# Altium schematic symbol library ThroughHole_Generic.SchLib: 8 symbols
Pins are listed as number, name and electrical type; pins without a type are passive.

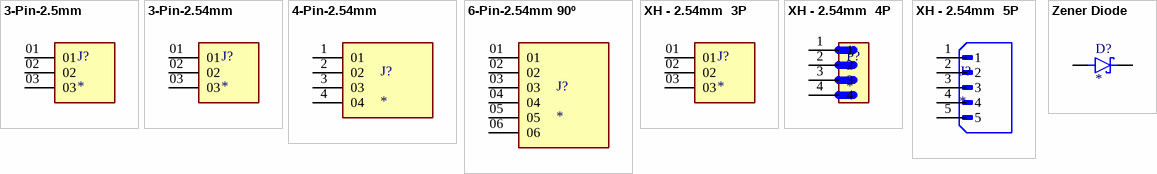
[diagram p0: symbols 3-Pin-2.5mm to Zener Diode]

## 3-Pin-2.5mm
designator J?
MP: HTSW-103-08-S-S; MF: Samtec; SnapEDA_Link: https://www.snapeda.com/parts/HTSW-103-08-S-S/Samtec/view-part/?ref=snap; Purchase-URL: https://pricing.snapeda.com/search/part/HTSW-103-08-S-S/?ref=eda; Value: *; Availability: In Stock; Check_prices: https://www.snapeda.com/parts/HTSW-103-08-S-S/Samtec/view-part/?ref=eda; Package: None; Price: None
footprint 3-Pin-2.5mm
pins: 01, 02, 03

## 3-Pin-2.54mm
designator J?
MP: HTSW-103-08-S-S; MF: Samtec; SnapEDA_Link: https://www.snapeda.com/parts/HTSW-103-08-S-S/Samtec/view-part/?ref=snap; Purchase-URL: https://pricing.snapeda.com/search/part/HTSW-103-08-S-S/?ref=eda; Value: *; Availability: In Stock; Check_prices: https://www.snapeda.com/parts/HTSW-103-08-S-S/Samtec/view-part/?ref=eda; Package: None; Price: None
footprint 3-Pin-2.54mm
pins: 01, 02, 03

## 4-Pin-2.54mm
designator J?
MF: Samtec; MP: TSW-104-25-S-S-RA; Package: None; Value: *; Check_prices: https://www.snapeda.com/parts/TSW-104-25-S-S-RA/Samtec/view-part/?ref=eda; SnapEDA_Link: https://www.snapeda.com/parts/TSW-104-25-S-S-RA/Samtec/view-part/?ref=snap; Availability: In Stock; Purchase-URL: https://pricing.snapeda.com/search/part/TSW-104-25-S-S-RA/?ref=eda; Price: None
footprint 4-Pin-2.54mm
pins: 1 01, 2 02, 3 03, 4 04

## 6-Pin-2.54mm 90º
designator J?
MP: HTSW10608SSLA; MF: Samtec; Purchase-URL: https://pricing.snapeda.com/search/part/HTSW10608SSLA/?ref=eda; Package: None; Check_prices: https://www.snapeda.com/parts/HTSW10608SSLA/Samtec/view-part/?ref=eda; Price: None; SnapEDA_Link: https://www.snapeda.com/parts/HTSW10608SSLA/Samtec/view-part/?ref=snap; Availability: In Stock; Value: *
footprint 6-Pin-2.54mm 90º
pins: 01, 02, 03, 04, 05, 06

## XH - 2.54mm  3P
designator J?
MP: HTSW-103-08-S-S; MF: Samtec; SnapEDA_Link: https://www.snapeda.com/parts/HTSW-103-08-S-S/Samtec/view-part/?ref=snap; Purchase-URL: https://pricing.snapeda.com/search/part/HTSW-103-08-S-S/?ref=eda; Value: *; Availability: In Stock; Check_prices: https://www.snapeda.com/parts/HTSW-103-08-S-S/Samtec/view-part/?ref=eda; Package: None; Price: None
footprint XH - 2.54mm  3P
pins: 01, 02, 03

## XH - 2.54mm  4P
designator P?
Conn Shrouded Header (4 Sides) HDR 4 POS 2.5mm Solder RA Side Entry Thru-Hole Box; MF: J.S.T. Manufacturing Co; MP: S4B-XH-A(LF)(SN); SnapEDA_Link: https://www.snapeda.com/parts/S4B-XH-A(LF)(SN)/ACT/view-part/?ref=snap; Availability: In Stock; Price: None; Value: *; Check_prices: https://www.snapeda.com/parts/S4B-XH-A(LF)(SN)/ACT/view-part/?ref=eda; Package: None
footprint XH - 2.54mm  4P
pins: 1, 2, 3, 4

## XH - 2.54mm  5P
designator J?
Connector Header Through Hole, Right Angle 5 position 0.098 (2.50mm); MF: JST Sales; MP: S5B-XH-A; SnapEDA_Link: https://www.snapeda.com/parts/S5B-XH-A/JST+Sales+America+Inc./view-part/?ref=snap; Package: None; Value: *; Check_prices: https://www.snapeda.com/parts/S5B-XH-A/JST+Sales+America+Inc./view-part/?ref=eda
footprint XH - 2.54mm  5P
pins: 1, 2, 3, 4, 5

## Zener Diode
designator D?
Zener Diode Single 15V 5% 14Ohm 1000mW 2-Pin DO-41 Bag; MF: onsemi; MP: 1N4744A; SnapEDA_Link: https://www.snapeda.com/parts/1N4744A/Onsemi/view-part/?ref=snap; Package: DO-41 ON Semiconductor; Value: *; Check_prices: https://www.snapeda.com/parts/1N4744A/Onsemi/view-part/?ref=eda
footprint Zener Diode
pins: 1 K, 2 A